# Altium schematic symbol library LinearRegulator.SchLib: 6 symbols
Pins are listed as number, name and electrical type; pins without a type are passive.

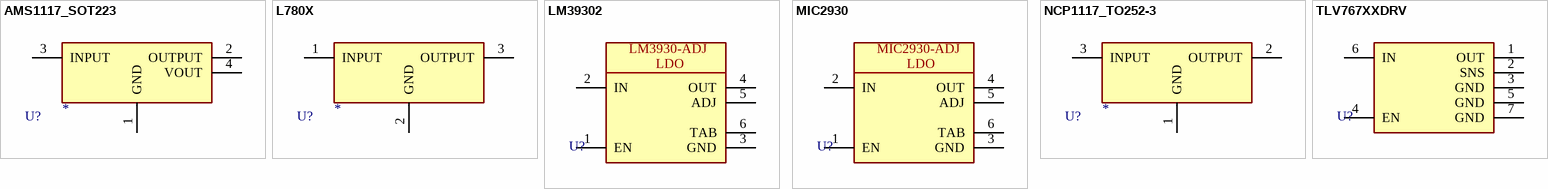
[diagram p0: symbols AMS1117_SOT223 to TLV767XXDRV]

## AMS1117_SOT223
designator U?, comment ERP_123-1  (value not drawn)
AMS1117 LDO; Supplier  Part Number 1: *; Supplier  1: *; Package: SOT223; Manufacturer Part Number 1: *; Manufacturer 1: *; ERP: *; Value: *
footprint AMS1117_SOT223
pins: 1 GND (power), 2 OUTPUT, 3 INPUT, 4 VOUT

## L780X
designator U?
IC REG LINEAR 1.5A; Manufacturer 1: STMicroelectronics; Manufacturer Part Number 1: *; Value: *
footprint L78_D2PAK (IC REG LINEAR 1.5A D2PAK)
pins: 1 INPUT, 2 GND (power), 3 OUTPUT

## LM39302
designator U?
LM39302R HTC TO263 - Adjustable 3A Low-Voltage Low-Dropout Regulator; Manufacturer Part Number 1: *; Manufacturer 1: *; Value: *
footprint DPAK170P1491X483-6N (D2-PAK, 6-Pads, Body 7.93x8.69mm (max), IPC Medium Density)
pins: 1 EN, 2 IN, 3 GND, 4 OUT, 5 ADJ, 6 TAB
text: LM3930-ADJ; LDO

## MIC2930
designator U?
Linear Voltage Regulator IC Positive Adjustable 1 Output 3A TO-263-5; Manufacturer Part Number 1: *; Manufacturer 1: *; Value: *
footprint DPAK170P1491X483-6N (D2-PAK, 6-Pads, Body 7.93x8.69mm (max), IPC Medium Density)
pins: 1 EN, 2 IN, 3 GND, 4 OUT, 5 ADJ, 6 TAB
text: MIC2930-ADJ; LDO

## NCP1117_TO252-3
designator U?, comment ERP_123-1  (value not drawn)
NCP1117 LDO; Supplier  Part Number 1: *; Supplier  1: *; Package: *; Manufacturer Part Number 1: *; Manufacturer 1: *; ERP: *; Value: *
footprint NCP1117_TO252-3
pins: 1 GND (power), 2 OUTPUT, 3 INPUT

## TLV767XXDRV
designator U?
IC REG LINEAR; Manufacturer Part Number 1: *; Manufacturer 1: *; Value: *
footprint TLV767XXDRV
pins: 1 OUT, 2 SNS, 3 GND, 4 EN, 5 GND, 6 IN, 7 GND